# Altium footprint library ssop-28_FTDI.PcbLib: 1 footprints
Each footprint in its own frame and in the unit in brackets; x right, y up, seen from the top. Pads: shape width x height; smd on the part's side, far side on the other; paste and mask are expansions set on the pad; w line width, h text height; cw(c..) or ccw(c..) is an arc to the next point about the centre after c.
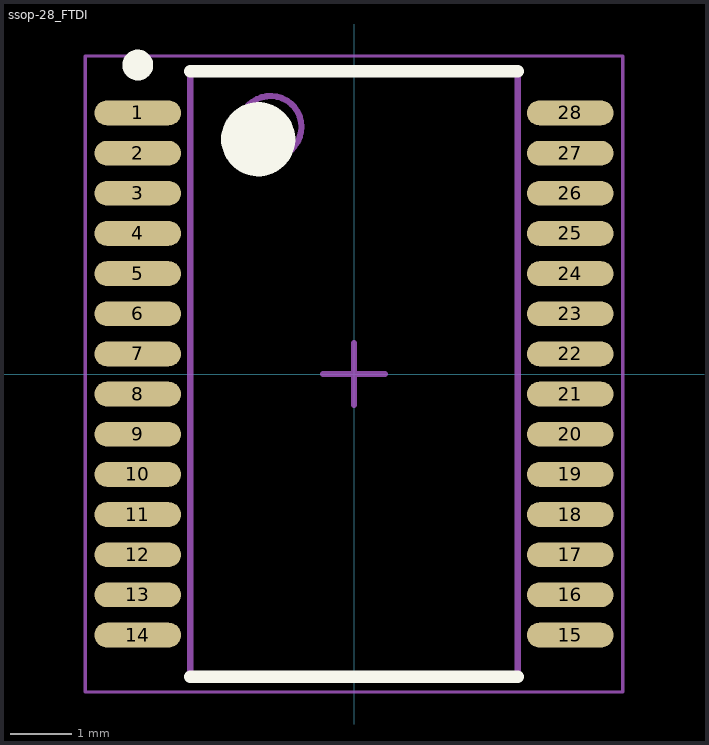
[diagram p0: the footprint, top view; thin cyan lines are the x and y axes]

## ssop-28_FTDI [mm] "28-HTSSOP, No Thermal Pad"
height 1.2
pads (28):
  oval 1.4x0.4 smd mask+0.05: 1(-3.5,4.225) 2(-3.5,3.575) 3(-3.5,2.925) 4(-3.5,2.275) 5(-3.5,1.625) 6(-3.5,0.975) 7(-3.5,0.325) 8(-3.5,-0.325) 9(-3.5,-0.975) 10(-3.5,-1.625) 11(-3.5,-2.275) 12(-3.5,-2.925) 13(-3.5,-3.575) 14(-3.5,-4.225) 15(3.5,-4.225) 16(3.5,-3.575) 17(3.5,-2.925) 18(3.5,-2.275) 19(3.5,-1.625) 20(3.5,-0.975) 21(3.5,-0.325) 22(3.5,0.325) 23(3.5,0.975) 24(3.5,1.625) 25(3.5,2.275) 26(3.5,2.925) 27(3.5,3.575) 28(3.5,4.225)
Top Overlay:
  circle w0.6: c-1.55,3.8 r0.3
  circle w0.25: c-3.5,5 r0.125
  lines w0.2: -2.65,-4.9 2.65,-4.9 ; -2.65,4.9 2.65,4.9
Mechanical 13:
  circle w0.1: c-1.35,4 r0.5
  lines w0.1: -2.65,-4.9 2.65,-4.9 2.65,4.9 -2.65,4.9 -2.65,-4.9
Mechanical 15:
  lines w0.05: -4.35,-5.15 4.35,-5.15 4.35,5.15 -4.35,5.15 -4.35,-5.15
  lines w0.1: -0.5,0 0.5,0 ; 0,-0.5 0,0.5
3D body "TSSOP-28.stp": height 1.11, standoff 0.01, extent -3.215,-4.5 3.215,4.5